# Altium footprint library bme280.PcbLib: 1 footprints
Each footprint in its own frame and in the unit in brackets; x right, y up, seen from the top. Pads: shape width x height; smd on the part's side, far side on the other; paste and mask are expansions set on the pad; w line width, h text height; cw(c..) or ccw(c..) is an arc to the next point about the centre after c.
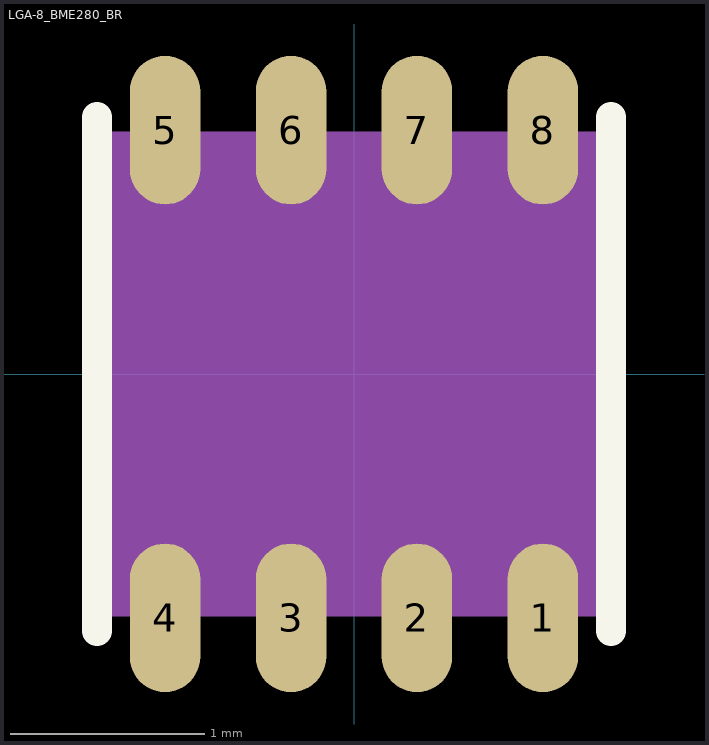
[diagram p0: the footprint, top view; thin cyan lines are the x and y axes]

## LGA-8_BME280_BR [mm]
pads (8):
  oval 0.364x0.767 smd: 1(0.975,-1.258) 2(0.325,-1.258) 3(-0.325,-1.258) 4(-0.975,-1.258) 5(-0.975,1.258) 6(-0.325,1.258) 7(0.325,1.258) 8(0.975,1.258)
Top Overlay:
  lines w0.152: -1.326,-1.326 -1.326,1.326 ; 1.326,-1.326 1.326,1.326
Mechanical 4:
  region: -1.25,-1.25 -1.25,1.25 1.25,1.25 1.25,-1.25
Mechanical 5:
  region: -1.15,1.25 -1.15,0.9 -0.8,0.9 -0.8,1.25
  region: -0.5,1.25 -0.5,0.9 -0.15,0.9 -0.15,1.25
  region: 0.15,1.25 0.15,0.9 0.5,0.9 0.5,1.25
  region: 0.8,1.25 0.8,0.9 1.15,0.9 1.15,1.25
  region: 0.8,-1.25 0.8,-0.9 1.15,-0.9 1.15,-1.25
  region: 0.15,-1.25 0.15,-0.9 0.5,-0.9 0.5,-1.25
  region: -0.5,-1.25 -0.5,-0.9 -0.15,-0.9 -0.15,-1.25
  region: -1.15,-1.25 -1.15,-0.9 -0.8,-0.9 -0.8,-1.25
Mechanical 6:
  circle w0.06: c-1.25,0 r0.03
Mechanical 15:
  region: 0.926,1.012 0.926,1.026 0.996,1.026 0.996,1.012
  region: 1.038,1.026 1.038,1.04 1.094,1.04 1.094,1.026
  region: 0.912,1.026 0.912,1.04 1.01,1.04 1.01,1.026
  region: 0.912,1.04 0.912,1.054 1.108,1.054 1.108,1.04
  region: 0.968,1.054 0.968,1.068 1.122,1.068 1.122,1.054
  region: 0.898,1.054 0.898,1.068 0.954,1.068 0.954,1.054
  region: 1.08,1.068 1.08,1.082 1.122,1.082 1.122,1.068
  region: 0.982,1.068 0.982,1.082 1.038,1.082 1.038,1.068
  region: 0.898,1.068 0.898,1.082 0.94,1.082 0.94,1.068
  region: 1.094,1.082 1.094,1.096 1.122,1.096 1.122,1.082
  region: 0.996,1.082 0.996,1.096 1.024,1.096 1.024,1.082
  region: 0.898,1.082 0.898,1.096 0.926,1.096 0.926,1.082
  region: 1.094,1.096 1.094,1.11 1.122,1.11 1.122,1.096
  region: 0.996,1.096 0.996,1.11 1.024,1.11 1.024,1.096
  region: 0.898,1.096 0.898,1.11 0.926,1.11 0.926,1.096
  region: 1.066,1.11 1.066,1.124 1.122,1.124 1.122,1.11
  region: 0.982,1.11 0.982,1.124 1.052,1.124 1.052,1.11
  region: 0.898,1.11 0.898,1.124 0.94,1.124 0.94,1.11
  region: 0.898,1.124 0.898,1.138 1.122,1.138 1.122,1.124
  region: 1.024,1.138 1.024,1.152 1.108,1.152 1.108,1.138
  region: 0.912,1.138 0.912,1.152 1.01,1.152 1.01,1.138
  region: 1.038,1.152 1.038,1.166 1.094,1.166 1.094,1.152
  region: 0.912,1.152 0.912,1.166 1.01,1.166 1.01,1.152
  region: 0.94,1.166 0.94,1.18 0.982,1.18 0.982,1.166
  region: 0.94,-1.166 0.94,-1.152 0.968,-1.152 0.968,-1.166
  region: 0.94,-1.152 0.94,-1.138 0.968,-1.138 0.968,-1.152
  region: 0.926,-1.138 0.926,-1.124 0.968,-1.124 0.968,-1.138
  region: 0.912,-1.124 0.912,-1.11 0.954,-1.11 0.954,-1.124
  region: 0.912,-1.11 0.912,-1.096 1.122,-1.096 1.122,-1.11
  region: 0.898,-1.096 0.898,-1.082 1.122,-1.082 1.122,-1.096
  region: 0.898,-1.082 0.898,-1.068 1.122,-1.068 1.122,-1.082
  region: 0.898,-1.068 0.898,-1.054 1.122,-1.054 1.122,-1.068
  region: -1.25,0 -0.95,0.125 -0.95,-0.125